# EAGLE library part ATTINY44A-SSU (library parts)
ATTINY44A-SSU, 8 bit AVR Microcontroller 20MHz 256 B, 4 kB Flash, 256 B RAM, I2C 14-Pin SOIC Source: Datasheet <http://www.atmel.com/Images/doc8183.pdf>
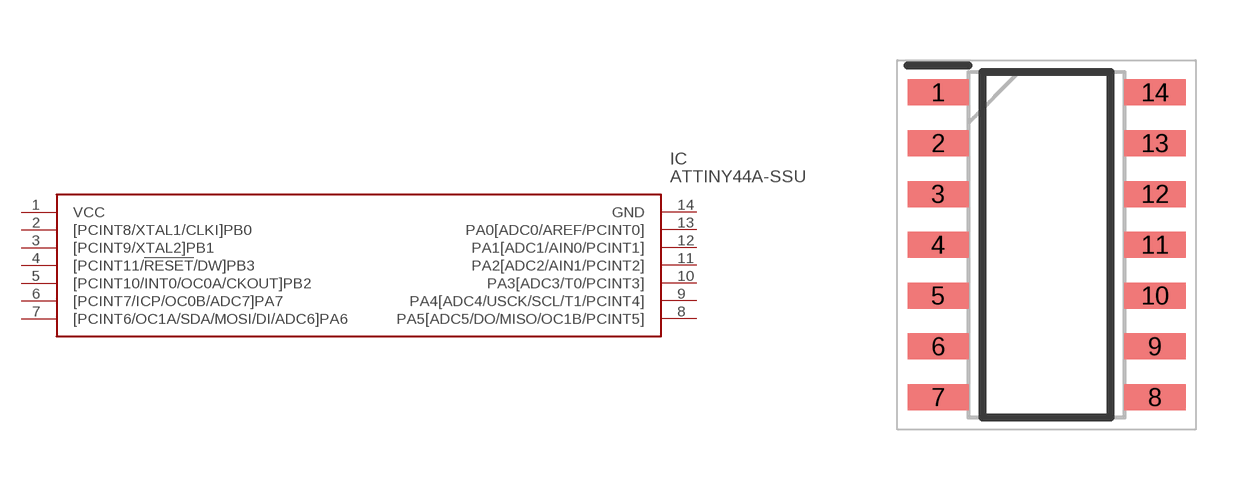
[diagram p0: symbol with the pads of SOIC127P600X175-14N; footprint SOIC127P600X175-14N]

Designator prefix IC

## ATTINY44A-SSU (DESCRIPTION: ATTINY44A-SSU, 8 bit AVR Microcontroller 20MHz 256 B, 4 kB Flash, 256 B RAM, I2C 14-Pin SOIC; HEIGHT: 1.75mm; MANUFACTURER_NAME: Microchip; MANUFACTURER_PART_NUMBER: ATTINY44A-SSU; MOUSER_PART_NUMBER: 556-ATTINY44A-SSU; MOUSER_PRICE-STOCK: https://www.mouser.com/Search/Refine.aspx?Keyword=556-ATTINY44A-SSU; RS_PART_NUMBER: 1331640P; RS_PRICE-STOCK: http://uk.rs-online.com/web/p/products/1331640P)  [SOIC127P600X175-14N]
1  VCC  pwr
2  [PCINT8/XTAL1/CLKI]PB0  in
3  [PCINT9/XTAL2]PB1  in
4  [PCINT11/!RESET!/DW]PB3  in
5  [PCINT10/INT0/OC0A/CKOUT]PB2  out
6  [PCINT7/ICP/OC0B/ADC7]PA7  in
7  [PCINT6/OC1A/SDA/MOSI/DI/ADC6]PA6  in
8  PA5[ADC5/DO/MISO/OC1B/PCINT5]  in
9  PA4[ADC4/USCK/SCL/T1/PCINT4]  in
10  PA3[ADC3/T0/PCINT3]  in
11  PA2[ADC2/AIN1/PCINT2]  in
12  PA1[ADC1/AIN0/PCINT1]  in
13  PA0[ADC0/AREF/PCINT0]  in
14  GND  pwr

## Footprint SOIC127P600X175-14N (pad centres in mm)
14S1 - SOIC
smd 1.528 x 0.65: 1 -2.711,3.81; 2 -2.711,2.54; 3 -2.711,1.27; 4 -2.711,0; 5 -2.711,-1.27; 6 -2.711,-2.54; 7 -2.711,-3.81; 8 2.711,-3.81; 9 2.711,-2.54; 10 2.711,-1.27; 11 2.711,0; 12 2.711,1.27; 13 2.711,2.54; 14 2.711,3.81